# EAGLE library part INSECTCHIP1A (library harrison)
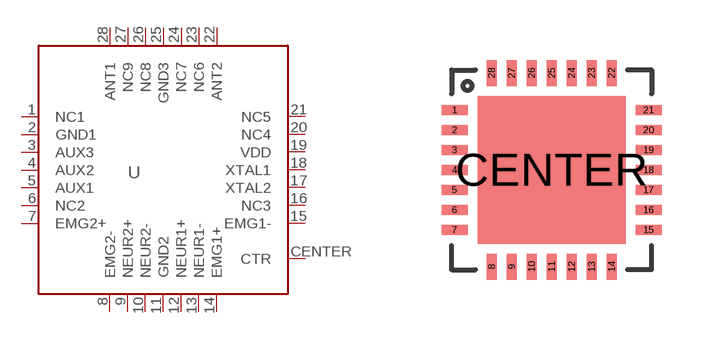
[diagram p33: symbol with the pads of QFN28_5_X_5; footprint QFN28_5_X_5]

Designator prefix U

## INSECTCHIP1A  [QFN28_5_X_5]
1  NC1
2  GND1
3  AUX3
4  AUX2
5  AUX1
6  NC2
7  EMG2+
8  EMG2-
9  NEUR2+
10  NEUR2-
11  GND2
12  NEUR1+
13  NEUR1-
14  EMG1+
15  EMG1-
16  NC3
17  XTAL2
18  XTAL1
19  VDD
20  NC4
21  NC5
22  ANT2
23  NC6
24  NC7
25  GND3
26  NC8
27  NC9
28  ANT1
CENTER  CTR

## Footprint QFN28_5_X_5 (pad centres in mm)
smd 0.65 x 0.25: 1 -2.425,1.5; 2 -2.425,1; 3 -2.425,0.5; 4 -2.425,0; 5 -2.425,-0.5; 6 -2.425,-1; 7 -2.425,-1.5; 15 2.425,-1.5; 16 2.425,-1; 17 2.425,-0.5; 18 2.425,0; 19 2.425,0.5; 20 2.425,1; 21 2.425,1.5
smd 0.25 x 0.65: 8 -1.5,-2.425; 9 -1,-2.425; 10 -0.5,-2.425; 11 0,-2.425; 12 0.5,-2.425; 13 1,-2.425; 14 1.5,-2.425; 22 1.5,2.425; 23 1,2.425; 24 0.5,2.425; 25 0,2.425; 26 -0.5,2.425; 27 -1,2.425; 28 -1.5,2.425
smd 3.7 x 3.7: CENTER 0,0